# Altium schematic symbol library OP AMP DUAL.Schlib: 1 symbol
Pins are listed as number, name and electrical type; pins without a type are passive.

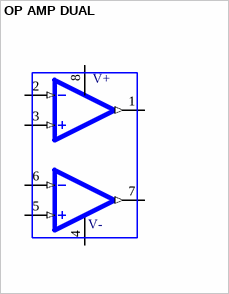
[diagram p0: symbol OP AMP DUAL]

## OP AMP DUAL
designator U?
IC OPAMP VFB 50KHZ RRO 8MSOP
pins: 1 OUTA (out), 2 INA- (in), 3 INA+ (in), 4 V- (power), 5 INB+ (in), 6 INB- (in), 7 OUTB (out), 8 V+ (power)